# Altium integrated library 691313510004.IntLib: 1 symbol
Pins are listed as number, name and electrical type; pins without a type are passive.

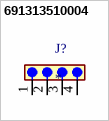
[diagram p0: symbol 691313510004]

## 691313510004
designator J?
313; 5.08mm Pitch Straight Pluggable Term Block, PCB Header, Through Hole, 4 Way ¦ Wurth Electronics 691313510004; MF: WÃ¼rth Elektronik; SnapEDA_Link: https://www.snapeda.com/parts/691313510004/W%25C3%25BCrth+Elektronik+Midcom/view-part/?ref=snap; Package: None; Value: *; MP: 691313510004; Check_prices: https://www.snapeda.com/parts/691313510004/W%25C3%25BCrth+Elektronik+Midcom/view-part/?ref=eda
footprint 691313510004
pins: 1, 2, 3, 4